# Altium footprint library CargadorDeBaterias.PcbLib: 11 footprints
Each footprint in its own frame and in the unit in brackets; x right, y up, seen from the top. Pads: shape width x height; smd on the part's side, far side on the other; paste and mask are expansions set on the pad; w line width, h text height; cw(c..) or ccw(c..) is an arc to the next point about the centre after c.
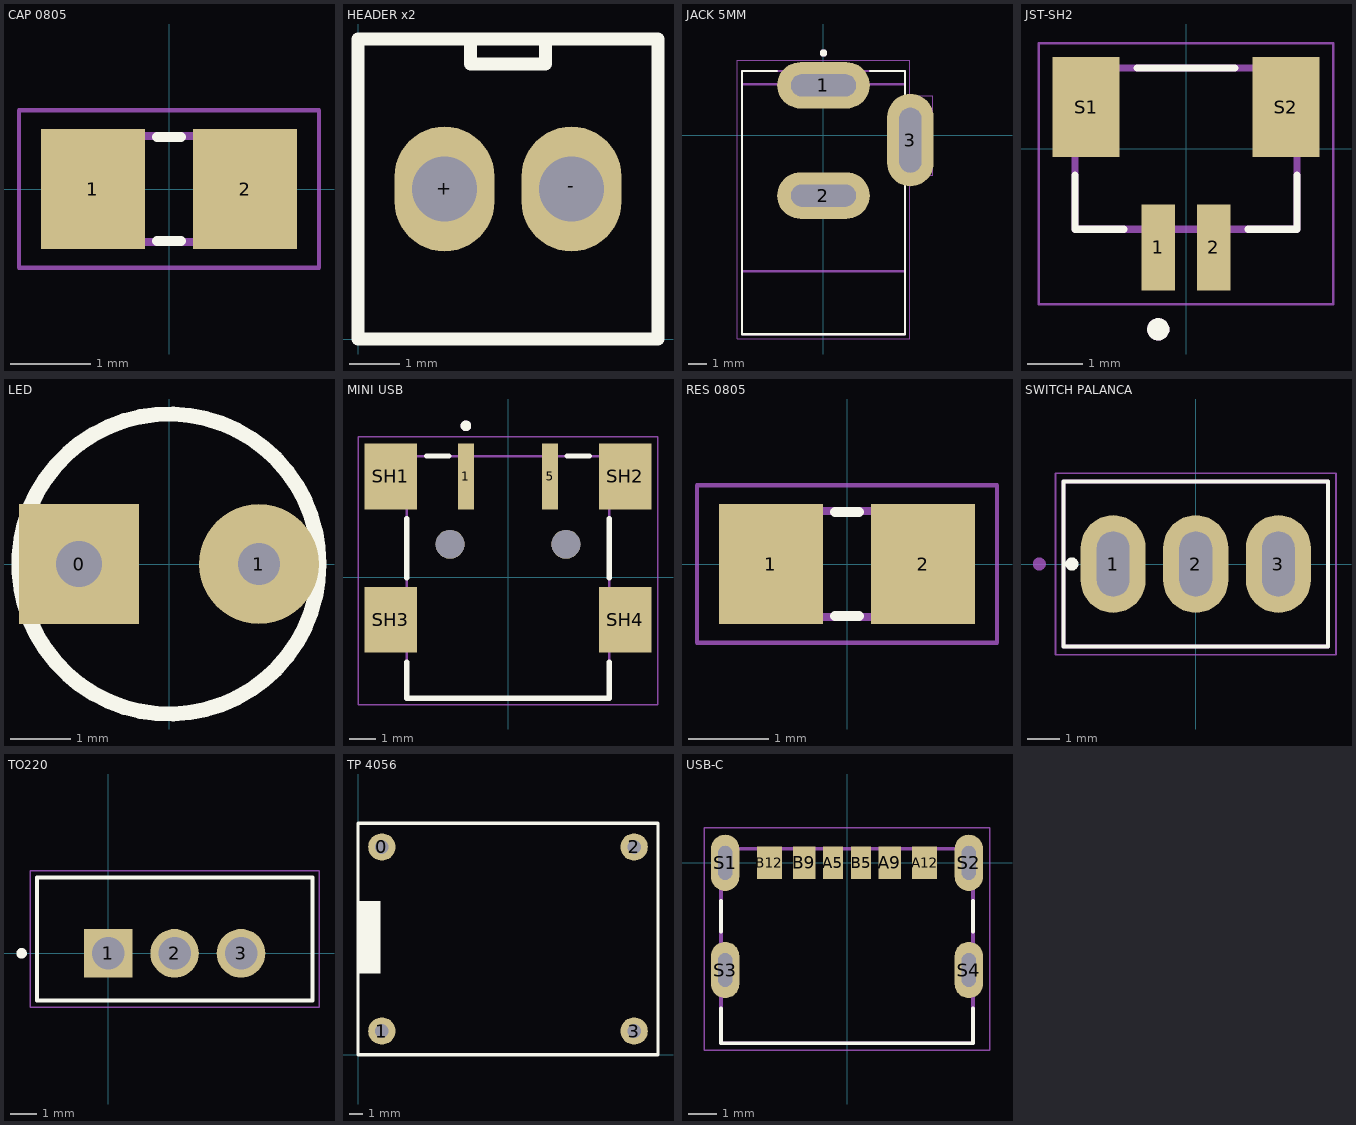
[diagram p0: the footprints below, top view; thin cyan lines are the x and y axes]

## CAP 0805 [mm]
pads (2):
  rect 1.3x1.5 smd: 1(-0.95,0) 2(0.95,0)
Top Overlay:
  lines w0.127: -0.15,-0.65 0.15,-0.65 ; -0.15,0.65 0.15,0.65
Mechanical 13:
  region: 1.106,-0.724 0.356,-0.724 0.356,0.726 1.106,0.726
  region: -0.342,-0.724 -1.092,-0.724 -1.092,0.726 -0.342,0.726
  lines w0.102: -0.381,0.66 0.381,0.66 ; -0.356,-0.66 0.381,-0.66
Mechanical 15:
  lines w0.051: -1.873,-0.983 -1.873,0.983 1.873,0.983 1.873,-0.983 -1.873,-0.983
3D body "GCM21BR71H104KA37K.STEP": height 1.23, standoff -0.02, extent -1,-0.725 1,0.725

## HEADER x2 [mm]
pads (2):
  oval 2x2.5 hole 1.3: +(1.73,3) -(4.27,3)
Top Overlay:
  lines w0.254: 2.25,6 2.25,5.5 3.75,5.5 3.75,6 ; 0,0 0,6 6,6 6,0 0,0
3D body "Molex-2.54-2pin.STEP": height 11.19, standoff -3.14, extent 0.457,-0.314 5.537,5.486

## JACK 5MM [mm]
pads (3):
  oval 5x2.5 hole 1.2 slot 3.5 at 0 deg: 1(0,2.705) 2(0,-3.25)
  oval 2.5x5 hole 1.2 slot 3.5 at 90 deg: 3(4.69,-0.254)
Top Overlay:
  circle w0.2: c0,4.45 r0.1
  lines w0.127: -2.52,3.475 -4.4,3.475 -4.4,-10.74 4.4,-10.74 4.4,-2.22 ; 2.52,3.475 4.4,3.475 4.4,2.22
Mechanical 13:
  circle w0.2: c0,4.45 r0.1
  lines w0.127: -4.4,-7.34 4.4,-7.34 ; -4.4,-7.34 -4.4,-10.74 4.4,-10.74 4.4,-7.34 ; -4.4,-7.34 -4.4,2.76 ; -4.4,2.76 4.4,2.76 ; -4.4,2.76 -4.4,3.475 4.4,3.475 4.4,2.76 ; 4.4,-7.34 4.4,2.76
Mechanical 15:
  lines w0.05: -4.65,-10.99 4.65,-10.99 4.65,-2.15 5.89,-2.15 5.89,2.15 4.65,2.15 4.65,4.05 -4.65,4.05 -4.65,-10.99
3D body "EJ508A--3DModel-STEP-56544.STEP": height 11.15, standoff -4, extent -4.527,-10.814 5.023,3.606

## JST-SH2 [mm]
height 6.3
pads (4):
  rect 0.6x1.55 smd: 1(-0.5,-1.775) 2(0.5,-1.775)
  rect 1.2x1.8 smd: S1(-1.8,0.75) S2(1.8,0.75)
Top Overlay:
  circle w0.2: c-0.5,-3.25 r0.1
  lines w0.127: -2,-0.47 -2,-1.45 -1.12,-1.45 ; -0.88,1.45 0.88,1.45 ; 1.12,-1.45 2,-1.45 2,-0.47
Mechanical 13:
  circle w0.2: c-0.5,-3.25 r0.1
  lines w0.127: -2,-1.45 -2,1.45 2,1.45 2,-1.45 -2,-1.45
Mechanical 15:
  lines w0.05: -2.65,-2.8 2.65,-2.8 2.65,1.9 -2.65,1.9 -2.65,-2.8
3D body "step_temp.STEP": height 4.25, standoff 0, extent -2,-2.9 2,0.7

## LED [mm]
pads (2):
  rect 2x2 hole 0.762: 0(-1.5,0)
  round 2 hole 0.7: 1(1.5,0)
Top Overlay:
  circle w0.254: c0,0 r2.5
3D body "WP7113LSRD.STEP": height 9.6, standoff -26, extent -2.979,-2.921 2.471,2.979

## MINI USB [mm]
height 4.1
pads (8):
  rect 0.6x2.5 smd: 1(-1.6,3.83) 5(1.6,3.83)
  rect 2x2.5 smd: SH1(-4.45,3.83) SH2(4.45,3.83) SH3(-4.45,-1.62) SH4(4.45,-1.62)
  round 1.1 hole 1.1 unplated: ""(-2.2,1.25) ""(2.2,1.25)
Top Overlay:
  circle w0.2: c-1.6,5.75 r0.1
  lines w0.2: -3.85,-3.22 -3.85,-4.6 3.85,-4.6 3.85,-3.22 ; -3.85,-0.02 -3.85,2.23 ; -3.1,4.6 -2.25,4.6 ; 2.25,4.6 3.1,4.6 ; 3.85,-0.02 3.85,2.23
Mechanical 13:
  circle w0.2: c-1.6,5.75 r0.1
  lines w0.1: -3.85,-4.6 3.85,-4.6 3.85,4.6 -3.85,4.6 -3.85,-4.6
Mechanical 15:
  lines w0.05: -5.7,-4.85 5.7,-4.85 5.7,5.33 -5.7,5.33 -5.7,-4.85
3D body "step_temp.STEP": height 4.13, standoff -1, extent -5,-4.6 5,4.9

## RES 0805 [mm]
pads (2):
  rect 1.3x1.5 smd: 1(-0.95,0) 2(0.95,0)
Top Overlay:
  lines w0.127: -0.15,-0.65 0.15,-0.65 ; -0.15,0.65 0.15,0.65
Mechanical 13:
  region: 1.106,-0.724 0.356,-0.724 0.356,0.726 1.106,0.726
  region: -0.342,-0.724 -1.092,-0.724 -1.092,0.726 -0.342,0.726
  lines w0.102: -0.381,0.66 0.381,0.66 ; -0.356,-0.66 0.381,-0.66
Mechanical 15:
  lines w0.051: -1.873,-0.983 -1.873,0.983 1.873,0.983 1.873,-0.983 -1.873,-0.983
3D body "6-2176264-0.stp": height 0.53, standoff -0.03, extent -0.892,-0.573 1.108,0.677

## SWITCH PALANCA [mm]
height 23.64
pads (3):
  oval 2x3 hole 1 slot 2 at 90 deg: 1(-2.54,0) 2(0,0) 3(2.54,0)
Top Overlay:
  circle w0.2: c-3.81,0 r0.1
  lines w0.127: -4.065,-2.54 4.065,-2.54 4.065,2.54 -4.065,2.54 -4.065,-2.54
Mechanical 13:
  circle w0.2: c-4.815,0 r0.1
  lines w0.127: -4.065,-2.54 -4.065,2.54 4.065,2.54 4.065,-2.54 -4.065,-2.54
Mechanical 15:
  lines w0.05: -4.315,-2.79 4.315,-2.79 4.315,2.79 -4.315,2.79 -4.315,-2.79
3D body "step_temp.STEP": height 19.55, standoff -4.06, extent -4.066,-3.047 4.064,3.049

## TO220 [mm]
pads (3):
  rect 1.86x1.86 / inner round 1.86 / far side rect 1.86x1.86 hole 1.24: 1(0,0)
  round 1.86 hole 1.24: 2(2.54,0) 3(5.08,0)
Top Overlay:
  circle w0.2: c-3.31,0 r0.1
  lines w0.152: -2.73,-1.8 7.81,-1.8 7.81,2.9 -2.73,2.9 -2.73,-1.8
Mechanical 13:
  lines w0.127: -2.73,-1.8 7.81,-1.8 7.81,2.9 -2.73,2.9 -2.73,-1.8
Mechanical 15:
  lines w0.05: -2.98,-2.052 -2.98,3.148 8.06,3.148 8.06,-2.052 -2.98,-2.052
3D body "step_temp.STEP": height 20.4, standoff -9.94, extent -2.54,-1.683 7.62,2.667

## TP 4056 [mm]
pads (4):
  round 2 hole 1: 0(1.75,15.25) 1(1.75,1.75) 2(20.25,15.25) 3(20.25,1.75)
Top Overlay:
  rectangle: 0,5.969 1.651,11.303
  lines w0.254: 0,0 0,17 22,17 22,0 0,0
3D body "TP4056 Charger Module.STEP": height 3.72, standoff -0.15, extent -1.581,0 22,17

## USB-C [mm]
pads (10):
  rect 0.7x1.15 smd: A5(-0.5,0.005) B5(0.5,0.005)
  rect 0.8x1.15 smd: A9(1.52,0.005) B9(-1.52,0.005)
  rect 0.9x1.15 smd: A12(2.75,0.005) B12(-2.75,0.005)
  oval 1x2 hole 0.5 slot 1.2 at 90 deg: S1(-4.32,0) S2(4.32,0) S3(-4.32,-3.8) S4(4.32,-3.8)
Top Overlay:
  lines w0.127: -4.47,-5.15 -4.47,-6.4 4.47,-6.4 4.47,-5.15 ; -4.47,-2.45 -4.47,-1.35 ; 4.47,-2.45 4.47,-1.35
Mechanical 13:
  lines w0.127: -4.47,-6.4 -4.47,0.5 4.47,0.5 4.47,-6.4 -4.47,-6.4
Mechanical 15:
  lines w0.05: -5.07,-6.65 -5.07,1.25 5.07,1.25 5.07,-6.65 -5.07,-6.65
3D body "UJC-HP-3-SMT-TR--3DModel-STEP-56544.STEP": height 3.26, standoff -1, extent -4.495,-6.371 4.445,0.529